# Altium footprint library Res_Vishay_CRCW08050000Z0EA_eec_MFG.PcbLib: 1 footprints
Each footprint in its own frame and in the unit in brackets; x right, y up, seen from the top. Pads: shape width x height; smd on the part's side, far side on the other; paste and mask are expansions set on the pad; w line width, h text height; cw(c..) or ccw(c..) is an arc to the next point about the centre after c.
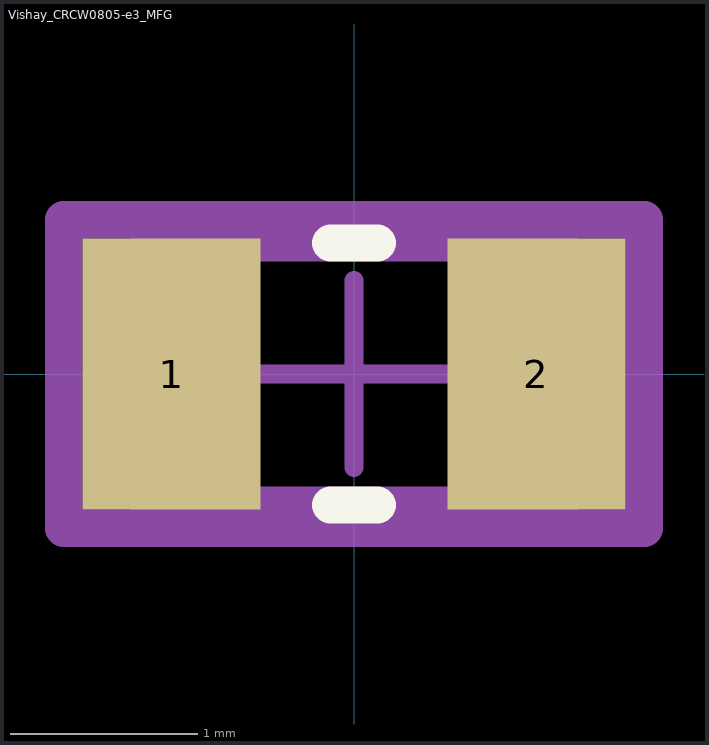
[diagram p0: the footprint, top view; thin cyan lines are the x and y axes]

## Vishay_CRCW0805-e3_MFG [mm]
pads (2):
  rect 0.95x1.45 smd paste+0 mask+0: 1(-0.975,0) 2(0.975,0)
Top Overlay:
  lines w0.2: -0.125,-0.7 0.125,-0.7 ; -0.125,0.7 0.125,0.7
Mechanical 10:
  lines w0.2: -1.55,-0.825 1.55,-0.825 1.55,0.825 -1.55,0.825 -1.55,-0.825
  text ".Designator" at 0,0.188 h1
Mechanical 12:
  lines w0.2: -1.1,-0.7 1.1,-0.7 1.1,0.7 -1.1,0.7 -1.1,-0.7
Mechanical 15:
  lines w0.1: -0.5,0 0.5,0 ; 0,-0.5 0,0.5
  lines w0.2: -1.55,-0.825 1.55,-0.825 1.55,0.825 -1.55,0.825 -1.55,-0.825
3D body "Res_Vishay_CRCW08050000Z0EA_eec.STEP": height 0.25, standoff 0, extent -1.55,-0.825 1.55,0.825